# Altium schematic symbol library 4x1.SchLib: 1 symbol
Pins are listed as number, name and electrical type; pins without a type are passive.

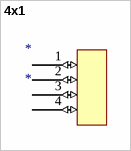
[diagram p0: symbol 4x1]

## 4x1
designator *
footprint 4x1
pins: 1 (io), 2 (io), 3 (io), 4 (io)